# Altium schematic symbol library MCU_Nordic.SchLib: 1 symbol
Pins are listed as number, name and electrical type; pins without a type are passive.

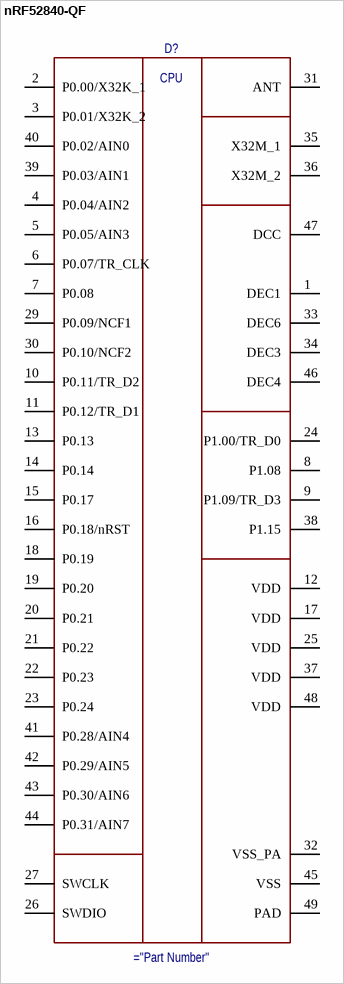
[diagram p0: symbol nRF52840-QF]

## nRF52840-QF
designator D?
BLE Wireless MCU Cortex-M4 48-pins
pins: 1 DEC1, 2 P0.00/X32K_1, 3 P0.01/X32K_2, 4 P0.04/AIN2, 5 P0.05/AIN3, 6 P0.07/TR_CLK, 7 P0.08, 8 P1.08, 9 P1.09/TR_D3, 10 P0.11/TR_D2, 11 P0.12/TR_D1, 12 VDD, 13 P0.13, 14 P0.14, 15 P0.17, 16 P0.18/nRST, 17 VDD, 18 P0.19, 19 P0.20, 20 P0.21, 21 P0.22, 22 P0.23, 23 P0.24, 24 P1.00/TR_D0, 25 VDD, 26 SWDIO, 27 SWCLK, 28 NC hidden, 29 P0.09/NCF1, 30 P0.10/NCF2, 31 ANT, 32 VSS_PA, 33 DEC6, 34 DEC3, 35 X32M_1, 36 X32M_2, 37 VDD, 38 P1.15, 39 P0.03/AIN1, 40 P0.02/AIN0, 41 P0.28/AIN4, 42 P0.29/AIN5, 43 P0.30/AIN6, 44 P0.31/AIN7, 45 VSS, 46 DEC4, 47 DCC, 48 VDD, 49 PAD
text: CPU